# EAGLE library part PHB_1MM27_2X06_?_S (library _hhn_con_pinhead_box_1mm27)
Pin Header Box-Type, 1.27mm/0.5"/50mil Pitch, 2x06 Circuits, single gates in schematic Note: see library description for an important note about THT-version
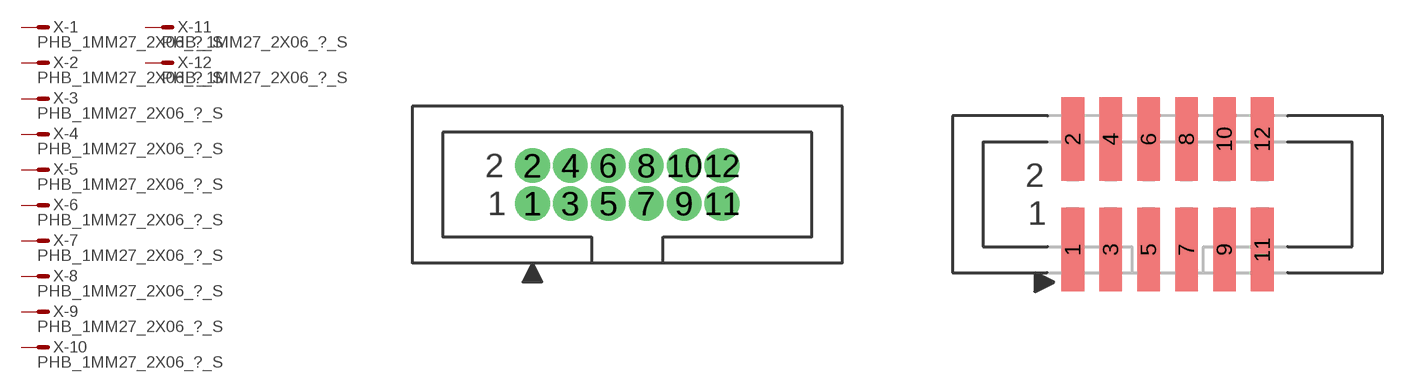
[diagram p35: symbol with the pads of PHB_1MM27_2X06_SNT; footprints PHB_1MM27_2X06_SNT, PHB_1MM27_2X06_SNS]

Designator prefix X; gates -1=M -2=M -3=M -4=M -5=M -6=M -7=M -8=M -9=M -10=M -11=M -12=M

## PHB_1MM27_2X06_SNT_S  [PHB_1MM27_2X06_SNT]
1  -1:S  pas
2  -2:S  pas
3  -3:S  pas
4  -4:S  pas
5  -5:S  pas
6  -6:S  pas
7  -7:S  pas
8  -8:S  pas
9  -9:S  pas
10  -10:S  pas
11  -11:S  pas
12  -12:S  pas

## PHB_1MM27_2X06_SNS_S  [PHB_1MM27_2X06_SNS]
Pads as for PHB_1MM27_2X06_SNT

## Footprint PHB_1MM27_2X06_SNT (pad centres in mm)
Pin Header Box-Type, 1.27mm Pitch, 2x06 circuits, Straight, No Locking, THT Important Note regarding to THT-versions: see description of library
drill 0.65 round: 1 -3.175,-0.635; 2 -3.175,0.635; 3 -1.905,-0.635; 4 -1.905,0.635; 5 -0.635,-0.635; 6 -0.635,0.635; 7 0.635,-0.635; 8 0.635,0.635; 9 1.905,-0.635; 10 1.905,0.635; 11 3.175,-0.635; 12 3.175,0.635

## Footprint PHB_1MM27_2X06_SNS (pad centres in mm)
Pin Header Box-Type, 1.27mm Pitch, 2x06 circuits, Straight, No Locking, SMT
smd 0.76 x 2.8: 1 -3.175,-1.85; 2 -3.175,1.85; 3 -1.905,-1.85; 4 -1.905,1.85; 5 -0.635,-1.85; 6 -0.635,1.85; 7 0.635,-1.85; 8 0.635,1.85; 9 1.905,-1.85; 10 1.905,1.85; 11 3.175,-1.85; 12 3.175,1.85